# Altium footprint library SIZE_H.PcbLib: 1 footprints
Each footprint in its own frame and in the unit in brackets; x right, y up, seen from the top. Pads: shape width x height; smd on the part's side, far side on the other; paste and mask are expansions set on the pad; w line width, h text height; cw(c..) or ccw(c..) is an arc to the next point about the centre after c.
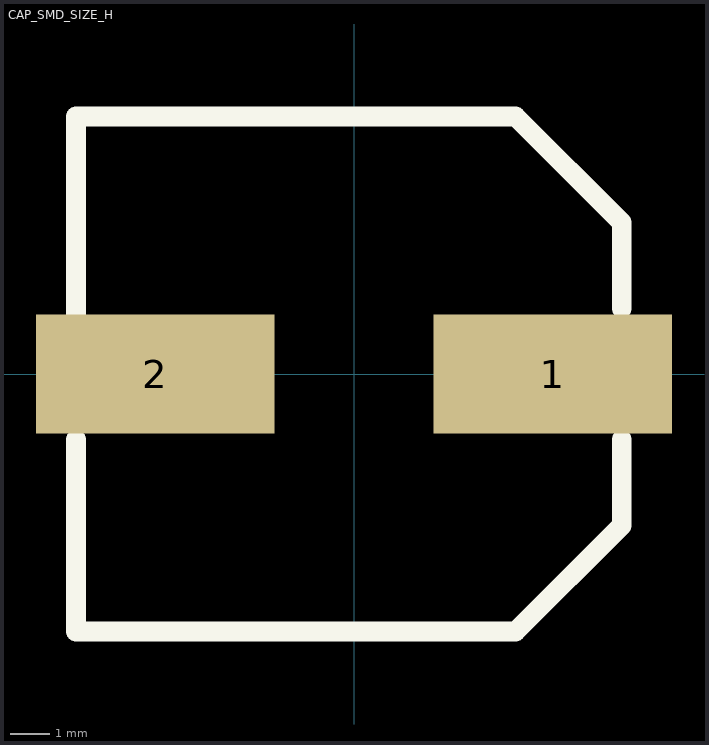
[diagram p0: the footprint, top view; thin cyan lines are the x and y axes]

## CAP_SMD_SIZE_H [mm]
pads (2):
  rect 6x3 smd: 1(5,0) 2(-5,0)
Top Overlay:
  lines w0.5: -6.985,-1.651 -6.985,-6.477 4.064,-6.477 6.731,-3.81 6.731,-1.651 ; -6.985,1.524 -6.985,6.477 4.064,6.477 6.731,3.81 6.731,1.651
3D body "CAP_SMD_Size_H.STEP": height 13.62, standoff 0.44, extent -7,-6.437 7,6.438